# Altium schematic symbol library bbilibs.SchLib: 2 symbols
Pins are listed as number, name and electrical type; pins without a type are passive.

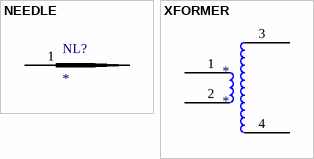
[diagram p0: symbols NEEDLE to XFORMER]

## NEEDLE
designator NL?
footprint PIN
pins: 1

## XFORMER
designator *
footprint XFORMER
pins: 1, 2, 3, 4